# EAGLE library part MMA1250D/1260D/1270D (library CEDT)
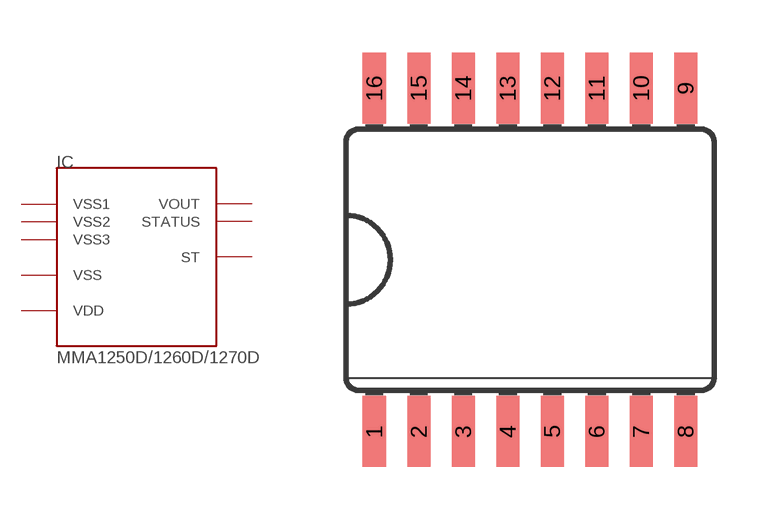
[diagram p5: symbol with the pads of SO16L; footprint SO16L]

Designator prefix IC

## MMA1250D/1260D/1270D  [SO16L]
1  VSS1  pwr
2  VSS2  pwr
3  VSS3  pwr
4  VOUT  out
5  STATUS  out
6  VDD  pwr
7  VSS  pwr
8  ST  in

## Footprint SO16L (pad centres in mm)
Small Outline Package .300 SIOC
smd 0.66 x 2.032: 1 -4.445,-4.902; 2 -3.175,-4.902; 3 -1.905,-4.902; 4 -0.635,-4.902; 5 0.635,-4.902; 6 1.905,-4.902; 7 3.175,-4.902; 8 4.445,-4.902; 9 4.445,4.902; 10 3.175,4.902; 11 1.905,4.902; 12 0.635,4.902; 13 -0.635,4.902; 14 -1.905,4.902; 15 -3.175,4.902; 16 -4.445,4.902